# Altium integrated library MS561101BA03-00.IntLib: 1 symbol
Pins are listed as number, name and electrical type; pins without a type are passive.

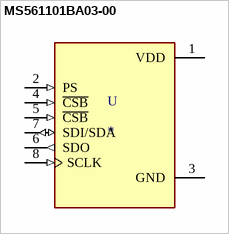
[diagram p0: symbol MS561101BA03-00]

## MS561101BA03-00
designator U
Pressure Sensor 1.44V to 3.6V 0.01bar to 1.2bar Absolute 8-Pin QFN Waffle Pack; MP: MS561101BA03-00; MF: TE Connectivity; EU_RoHS_Compliance: Compliant; Price: None; Availability: Unavailable; TE_purchase_URL: https://www.te.com/usa-en/product-MS561101BA03-00.html?te_bu=Cor&te_type=disp&te_campaign=seda_glo_cor-seda-global-disp-prtnr-fy19-seda-model-bom-cta_sma-317_1&elqCampaignId=32493; Value: *; SnapEDA_Link: https://www.snapeda.com/parts/MS561101BA03-00/TE%20Connectivity%20ALCOSWITCH%20Switches/view-part/287894/?ref=snap; Package: SMD-8 TE Connectivity
footprint SON125P500X300X100-8N
pins: 1 VDD (power), 2 PS (in), 3 GND (power), 4 ~{CSB} (in), 5 ~{CSB} (in), 6 SDO (out), 7 SDI/SDA (io), 8 SCLK (in)